# EAGLE library part ТИЛ6В (library others)
АГ0.472.105 ТУ, АГ0.472.101 ТУ ТИЛ6В - это импульсные линейные титрансформаторы с высоким значением импеданса линейной обмотки. Предназначены для гальванической развязки и согласования абонентов с мультиплексным каналом информационного обмена. Производитель: ОАО МСТАТОР, Новгородская обл., г.Боровичи. Технические условия: АГ0.472.105 ТУ, АГ0.472.101 ТУ
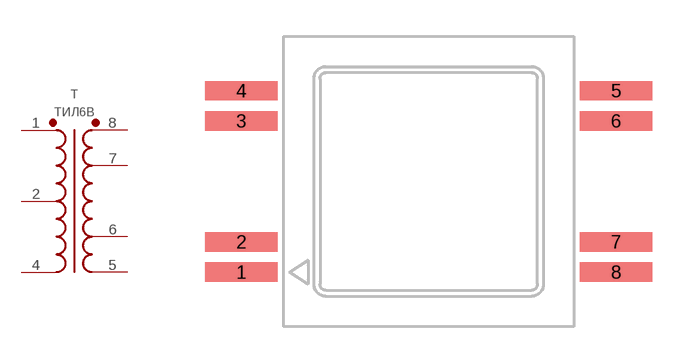
[diagram p1: symbol with the pads of TIL6V; footprint TIL6V]

Designator prefix T

## ТИЛ6В  [TIL6V]
1  1
2  2
4  4
5  5
6  6
7  7
8  8

## Footprint TIL6V (pad centres in mm)
smd 3 x 0.8: 1 -7.75,-3.75; 2 -7.75,-2.5; 3 -7.75,2.5; 4 -7.75,3.75; 5 7.75,3.75; 6 7.75,2.5; 7 7.75,-2.5; 8 7.75,-3.75